# Altium footprint library FootPrintLib_5.PCBLIB: 254 footprints (part 7 of 16)
Each footprint in its own frame and in the unit in brackets; x right, y up, seen from the top. Pads: shape width x height; smd on the part's side, far side on the other; paste and mask are expansions set on the pad; w line width, h text height; cw(c..) or ccw(c..) is an arc to the next point about the centre after c.
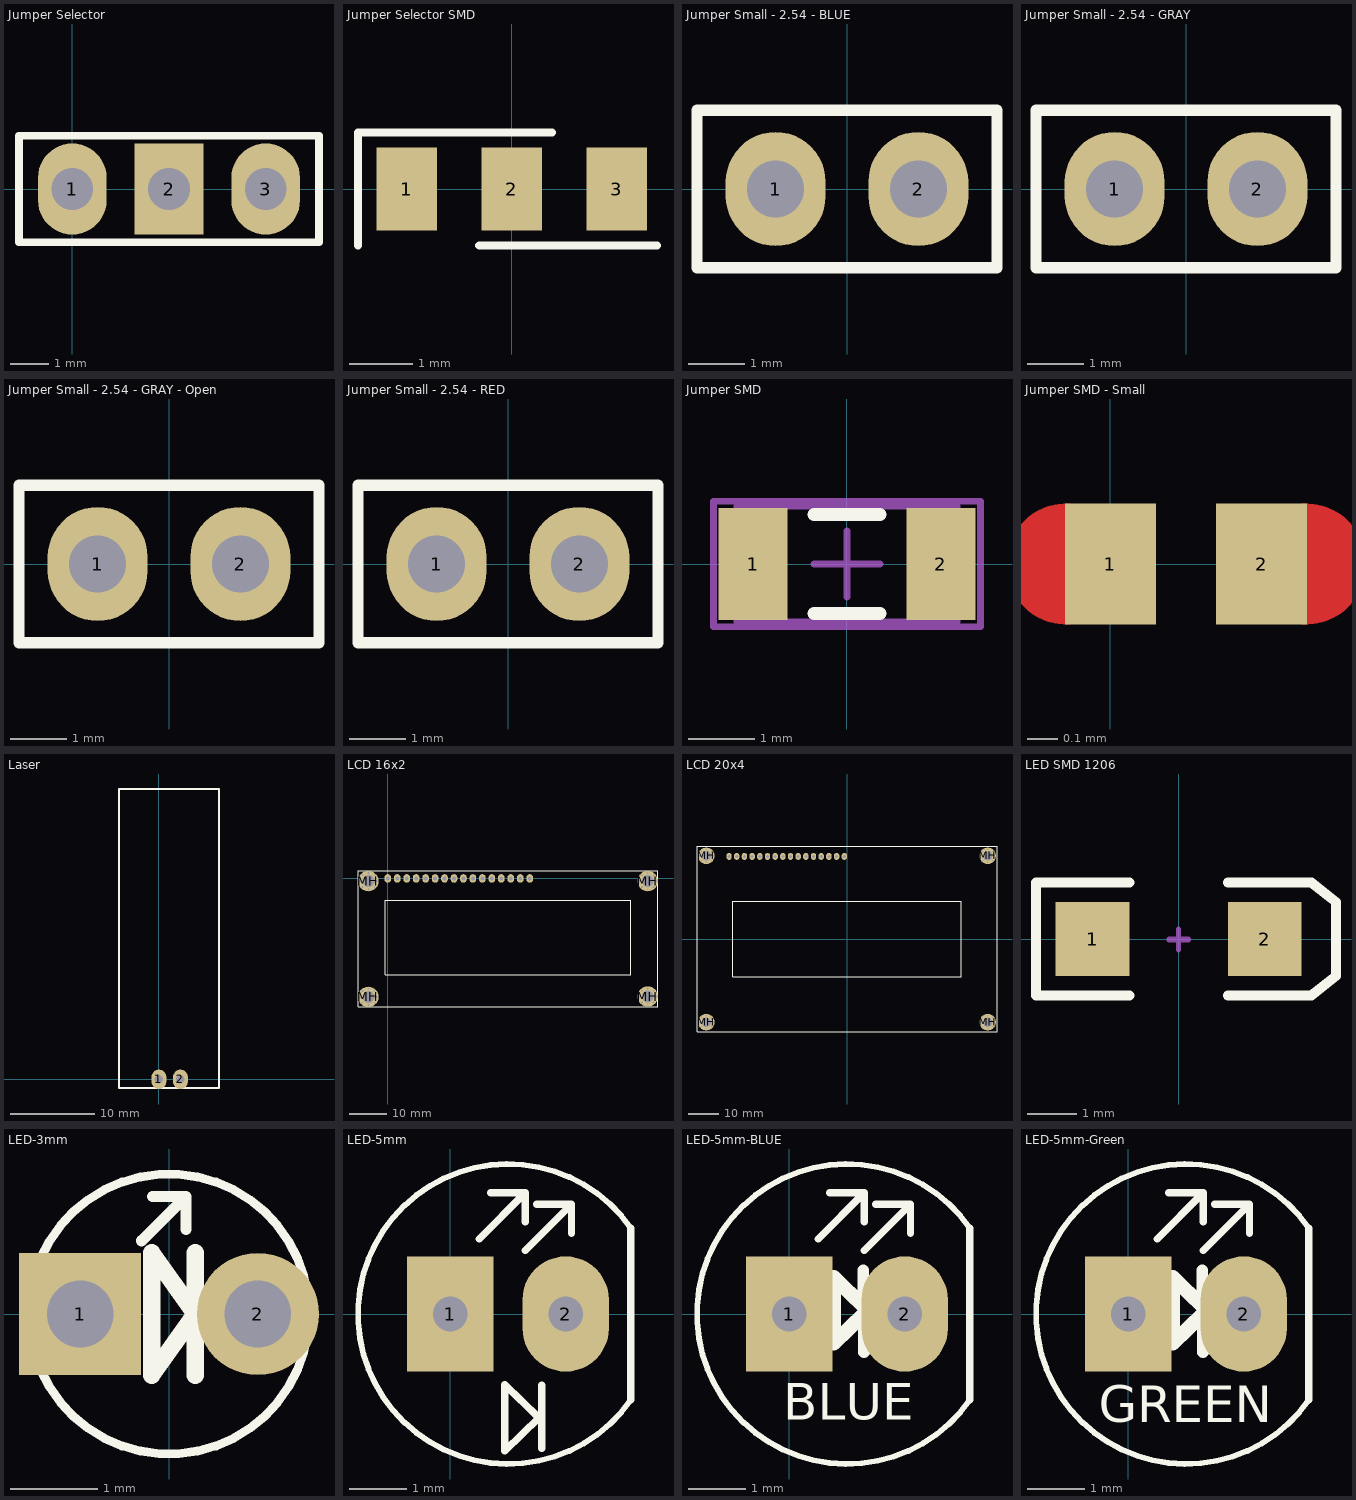
[diagram p6: the footprints below, top view; thin cyan lines are the x and y axes]

## Jumper Selector [mm]
pads (3):
  oval 1.8x2.4 hole 1.1: 1(0,0) 3(5.08,0)
  rect 1.8x2.4 hole 1.1: 2(2.54,0)
Top Overlay:
  lines w0.2: -1.4,-1.4 6.48,-1.4 6.48,1.4 -1.4,1.4 -1.4,-1.4
3D body "Header3.STEP": height 8.38, standoff -2.54, extent -1.245,-1.27 6.375,1.27
3D body: height 10.16, standoff 3.05, extent -1.245,-1.27 3.835,1.27

## Jumper Selector SMD [mm]
pads (3):
  rect 0.95x1.3 smd: 1(-1.65,0) 2(0,0) 3(1.65,0)
Top Overlay:
  lines w0.127: -2.413,-0.889 -2.413,0.889 0.635,0.889 ; -0.508,-0.889 2.286,-0.889
3D body "0805.STEP": height 0.6, standoff 0, extent -1.854,-0.635 0.178,0.635

## Jumper Small - 2.54 - BLUE [mil]
pads (2):
  oval 70x80 hole 40: 1(-50,0) 2(50,0)
Top Overlay:
  lines w7.87: -105.12,-55.12 105.12,-55.12 105.12,55.12 -105.12,55.12 -105.12,-55.12
3D body "jumper_akspt_z-blue.STEP": height 337.4, standoff 102.36, extent -98.03,-48.03 98.03,48.03
3D body "header02.STEP": height 330, standoff -100, extent -100,-50 100,50

## Jumper Small - 2.54 - GRAY [mil]
pads (2):
  oval 70x80 hole 40: 1(-50,0) 2(50,0)
Top Overlay:
  lines w7.87: -105.12,-55.12 105.12,-55.12 105.12,55.12 -105.12,55.12 -105.12,-55.12
3D body "jumper_akspt_g-grey.STEP": height 337.4, standoff 102.36, extent -98.03,-48.03 98.03,48.03
3D body "header02.STEP": height 330, standoff -100, extent -100,-50 100,50

## Jumper Small - 2.54 - GRAY - Open [mil]
pads (2):
  oval 70x80 hole 40: 1(-50,0) 2(50,0)
Top Overlay:
  lines w7.87: -105.12,-55.12 105.12,-55.12 105.12,55.12 -105.12,55.12 -105.12,-55.12
3D body "jumper_akspt_g-grey.STEP": height 337.4, standoff 102.36, extent 2.75,-48.03 198.82,48.03
3D body "header02.STEP": height 330, standoff -100, extent -100,-50 100,50

## Jumper Small - 2.54 - RED [mil]
pads (2):
  oval 70x80 hole 40: 1(-50,0) 2(50,0)
Top Overlay:
  lines w7.87: -105.12,-55.12 105.12,-55.12 105.12,55.12 -105.12,55.12 -105.12,-55.12
3D body "jumper_akspt_g-red.STEP": height 337.4, standoff 102.36, extent -98.03,-48.03 98.03,48.03
3D body "header02.STEP": height 330, standoff -100, extent -100,-50 100,50

## Jumper SMD [mm]
pads (2):
  rect 1.05x1.7 smd: 1(-1.425,0) 2(1.425,0)
Top Overlay:
  lines w0.2: -0.5,-0.75 0.5,-0.75 ; -0.5,0.75 0.5,0.75
Mechanical 13:
  lines w0.1: -1.675,-0.875 1.675,-0.875 1.675,0.875 -1.675,0.875 -1.675,-0.875
Mechanical 15:
  lines w0.1: -0.5,0 0.5,0 ; 0,-0.5 0,0.5 ; -2.025,-0.95 2.025,-0.95 2.025,0.95 -2.025,0.95 -2.025,-0.95
3D body "1206.STEP": height 0.6, standoff 0, extent -1.524,-0.762 1.524,0.762

## Jumper SMD - Small [mm]
pads (2):
  rect 0.3x0.4 smd paste+0 mask+0: 1(0,0) 2(0.5,0)
Top Layer:
  lines w0.2: -0.144,-0.1 cw(c-0.146,0) -0.144,0.1 ; 0.644,-0.1 ccw(c0.646,0) 0.644,0.1
Top Solder:
  rectangle: -0.15,-0.2 0.65,0.2
  lines w0.2: -0.144,-0.1 cw(c-0.146,0) -0.144,0.1 ; 0.644,-0.1 ccw(c0.646,0) 0.644,0.1

## Laser [mil]
pads (2):
  oval 70x90 hole 40: 1(0,0) 2(100,0)
Top Overlay:
  lines w10: -186.22,-40 280,-40 280,1349.21 -186.22,1349.21 -186.22,-40
3D body: height 241.21, standoff 231.23, extent 45,1160 54.96,2160
3D body "laser.STEP": height 472.44, standoff 0, extent -186.22,50 286.22,1435.83

## LCD 16x2 [mm] "Character LCD, 2 Row, 16 Colunm"
pads (52):
  oval 1.778x2.286 hole 1.016: 1(0,0) 2(2.54,0) 3(5.08,0) 4(7.62,0) 5(10.16,0) 6(12.7,0) 7(15.24,0) 8(17.78,0) 9(20.32,0) 10(22.86,0) 11(25.4,0) 12(27.94,0) 13(30.48,0) 14(33.02,0) 15(35.56,0) 16(38.1,0)
  round 0.6 hole 0.5: MH(-7.4,-31.8) MH(-7.4,-0.7) MH(-6.756,-33.356) MH(-6.756,-30.244) MH(-6.756,-2.256) MH(-6.756,0.856) MH(-5.2,-34) MH(-5.2,-29.6) MH(-5.2,-2.9) MH(-5.2,1.5) MH(-3.644,-33.356) MH(-3.644,-30.244) MH(-3.644,-2.256) MH(-3.644,0.856) MH(-3,-31.8) MH(-3,-0.7) MH(67.6,-31.7) MH(67.6,-0.7) MH(68.244,-33.256) MH(68.244,-30.144) MH(68.244,-2.256) MH(68.244,0.856) MH(69.8,-33.9) MH(69.8,-29.5) MH(69.8,-2.9) MH(69.8,1.5) MH(71.356,-33.256) MH(71.356,-30.144) MH(71.356,-2.256) MH(71.356,0.856) MH(72,-31.7) MH(72,-0.7)
  round 5.5 hole 3.2: MH(-5.2,-31.8) MH(-5.2,-0.7) MH(69.8,-31.7) MH(69.8,-0.7)
Top Overlay:
  lines w0.254: -7.992,-34.468 72.508,-34.468 72.508,2.032 -7.992,2.032 -7.992,-34.468 ; -0.7,-25.9 65.3,-25.9 65.3,-5.9 -0.7,-5.9 -0.7,-25.9
3D body "14801-15 H.STEP": height 18.71, standoff -3.71, extent 67.5,-3 72.1,1.6
3D body "14801-15 H.STEP": height 18.71, standoff -3.71, extent 67.5,-34 72.1,-29.4
3D body "14801-15 H.STEP": height 18.71, standoff -3.71, extent -7.5,-34.1 -2.9,-29.5
3D body "14801-15 H.STEP": height 18.71, standoff -3.71, extent -7.5,-3 -2.9,1.6
3D body "My LCD.STEP": height 25.52, standoff 12.31, extent -7.992,-34.468 72.508,2.032
3D body "header16-15mm.STEP": height 18.03, standoff -2.54, extent -1.27,-1.27 39.37,1.27

## LCD 20x4 [mm]
pads (52):
  oval 1.778x2.286 hole 1.016: 1(-39,27.3) 2(-36.46,27.3) 3(-33.92,27.3) 4(-31.38,27.3) 5(-28.84,27.3) 6(-26.3,27.3) 7(-23.76,27.3) 8(-21.22,27.3) 9(-18.68,27.3) 10(-16.14,27.3) 11(-13.6,27.3) 12(-11.06,27.3) 13(-8.52,27.3) 14(-5.98,27.3) 15(-3.44,27.3) 16(-0.9,27.3)
  round 1 hole 0.5: MH(-48.7,-27.5) MH(-48.7,27.5) MH(-48.056,-29.056) MH(-48.056,-25.944) MH(-48.056,25.944) MH(-48.056,29.056) MH(-46.5,-29.7) MH(-46.5,-25.3) MH(-46.5,25.3) MH(-46.5,29.7) MH(-44.944,-29.056) MH(-44.944,-25.944) MH(-44.944,25.944) MH(-44.944,29.056) MH(-44.3,-27.5) MH(-44.3,27.5) MH(44.3,-27.5) MH(44.3,27.5) MH(44.944,-29.056) MH(44.944,-25.944) MH(44.944,25.944) MH(44.944,29.056) MH(46.5,-29.7) MH(46.5,-25.3) MH(46.5,25.3) MH(46.5,29.7) MH(48.056,-29.056) MH(48.056,-25.944) MH(48.056,25.944) MH(48.056,29.056) MH(48.7,-27.5) MH(48.7,27.5)
  round 5.5 hole 3.2: MH(-46.5,-27.5) MH(-46.5,27.5) MH(46.5,-27.5) MH(46.5,27.5)
Top Overlay:
  lines w0.254: -49.6,-30.6 49.6,-30.6 49.6,30.6 -49.6,30.6 -49.6,-30.6 ; -37.8,-12.5 37.8,-12.5 37.8,12.5 -37.8,12.5 -37.8,-12.5
3D body "14801-15 H.STEP": height 18.71, standoff -3.71, extent -48.8,25.2 -44.2,29.8
3D body "User Library-LCD 20 x 4.STEP": height 26.17, standoff 15.07, extent -49,-30 49,30
3D body "header16-15mm.STEP": height 18.03, standoff -2.54, extent -40.27,26.03 0.37,28.57
3D body "14801-15 H.STEP": height 18.71, standoff -3.71, extent -48.8,-29.8 -44.2,-25.2
3D body "14801-15 H.STEP": height 18.71, standoff -3.71, extent 44.2,-29.8 48.8,-25.2
3D body "14801-15 H.STEP": height 18.71, standoff -3.71, extent 44.2,25.2 48.8,29.8

## LED SMD 1206 [mm]
pads (2):
  rect 1.5x1.5 smd: 1(-1.75,0) 2(1.75,0)
Top Overlay:
  lines w0.2: -1,-1.15 -2.9,-1.15 -2.9,1.15 -1,1.15 ; 1,-1.15 2.7,-1.15 3.2,-0.75 3.2,0.75 2.7,1.15 1,1.15
Mechanical 1:
  lines w0.1: -0.2,-0.025 0.2,-0.025 ; -0.2,0 0.2,0 ; 0,-0.225 0,0.175 ; 0,-0.2 0,0.2
3D body "SW3dPS-LED_SMD_SML010L_Red.STEP": height 1.36, standoff 0.01, extent -1.65,-0.762 1.65,0.688

## LED-3mm [mil]
height 157.48
pads (2):
  rect 55x55 hole 30: 1(-40,0)
  round 55 hole 30: 2(40,0)
Top Overlay:
  circle w3.94: c0,0 r62.99
  lines w5: -12.4,32.95 7.6,52.95 ; -7.4,52.95 7.6,52.95 ; 7.6,37.95 7.6,52.95
  lines w7.87: 11.81,-27.56 11.81,27.56 ; -7.87,-27.56 11.81,0 -7.87,27.56 -7.87,-27.56
3D body "LED.STEP": height 153.55, standoff -59.05, extent -68.9,-69 68.9,68.8

## LED-5mm [mm]
pads (2):
  rect 1.5x2 hole 0.6: 1(0,0)
  oval 1.5x2 hole 0.6: 2(2,0)
Top Overlay:
  lines w0.1: 3.13,-1.491 cw(c1,0) 3.13,1.491
  lines w0.127: 0.5,1.3 1.3,2.1 ; 0.7,2.1 1.3,2.1 ; 1.3,1.1 2.1,1.9 ; 1.3,1.6 1.3,2.1 ; 1.5,1.9 2.1,1.9 ; 1.534,-1.796 0.946,-1.227 0.946,-2.37 1.536,-1.798 ; 1.585,-2.332 1.585,-1.229 ; 2.1,1.4 2.1,1.9 ; 3.13,-1.491 3.13,1.491

## LED-5mm-BLUE [mm]
pads (2):
  rect 1.5x2 hole 0.6: 1(0,0)
  oval 1.5x2 hole 0.6: 2(2,0)
Top Overlay:
  lines w0.1: 3.13,-1.491 cw(c1,0) 3.13,1.491
  lines w0.127: 0.5,1.3 1.3,2.1 ; 0.7,2.1 1.3,2.1 ; 1.3,1.1 2.1,1.9 ; 1.3,1.6 1.3,2.1 ; 1.5,1.9 2.1,1.9 ; 2.1,1.4 2.1,1.9 ; 3.13,-1.491 3.13,1.491
  lines w0.2: 1.278,0.762 1.295,-0.661
  lines w0.254: 1.295,0 0.77,-0.508 0.77,0.635 1.295,0.127
  text "BLUE" at -0.102,-1.829 h0.64

## LED-5mm-Green [mm]
pads (2):
  rect 1.5x2 hole 0.6: 1(0,0)
  oval 1.5x2 hole 0.6: 2(2,0)
Top Overlay:
  lines w0.1: 3.13,-1.491 cw(c1,0) 3.13,1.491
  lines w0.127: 0.5,1.3 1.3,2.1 ; 0.7,2.1 1.3,2.1 ; 1.3,1.1 2.1,1.9 ; 1.3,1.6 1.3,2.1 ; 1.5,1.9 2.1,1.9 ; 2.1,1.4 2.1,1.9 ; 3.13,-1.491 3.13,1.491
  lines w0.2: 1.278,0.762 1.295,-0.661
  lines w0.254: 1.295,0 0.77,-0.508 0.77,0.635 1.295,0.127
  text "GREEN" at -0.508,-1.88 h0.64